# Altium schematic symbol library SBC5.SchLib: 66 symbols (part 2 of 4)
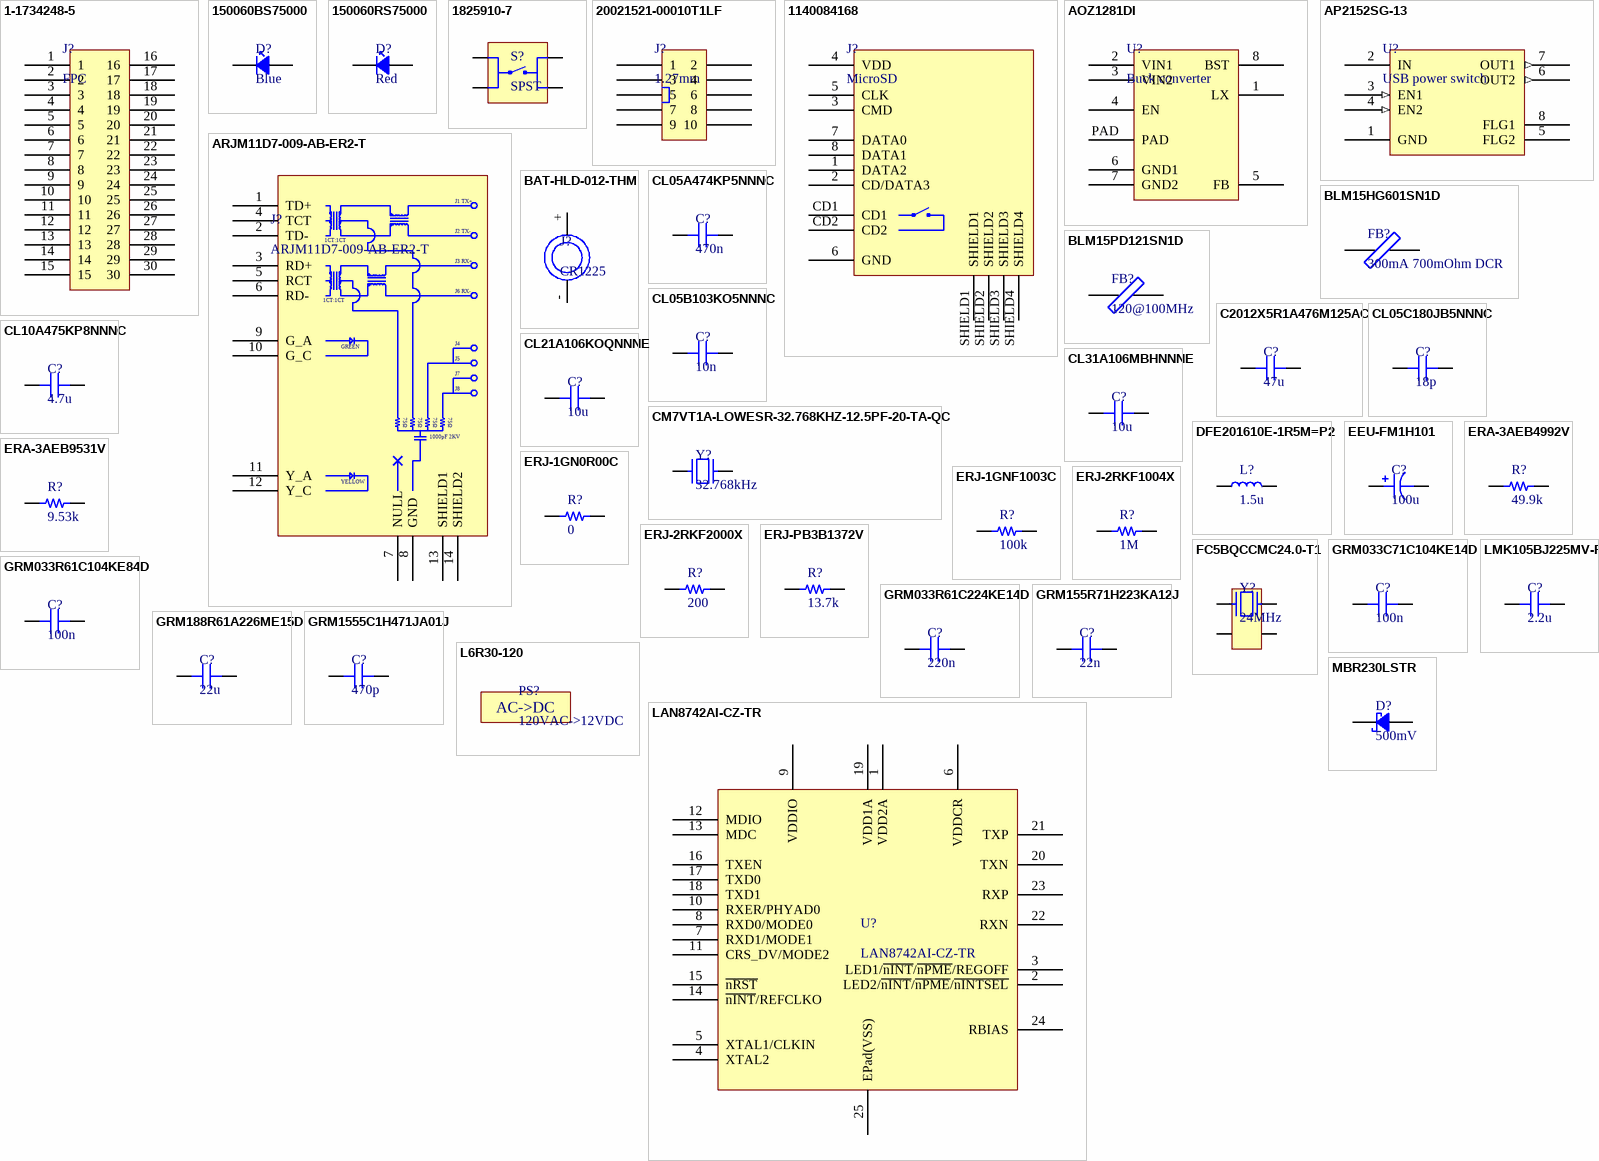
[diagram p4: symbols 1-1734248-5 to MBR230LSTR]

## ERJ-1GNF1003C
designator R?, comment 100k
PANASONIC - ERJ1GNF1003C - RES, 100K, 1%, 0.05W, 0201, THICK FILM; Manufacturer Part Number: ERJ-1GNF1003C; Resistance: 100kR; Temperature Coefficient: 200ppm/°C; Power Rating: 50mW; Voltage Rating: 25V; Supplier 1: Digi-Key; Supplier Part Number 1: P122655CT-ND; Manufacturer: Panasonic; RoHS: Yes; Category: Chip SMD Resistors; Stock 1: 833904; Pricing 1: 1=0.10000, 10=0.04600, 100=0.01890, 1000=0.00848, 2500=0.00736, 5000=0.00608 (USD); Mount: Surface Mount; Case/Package: 0201; Number of Pins: 2; Contact Plating: Tin,Matte; Case Code (Metric): 0603; Case Code (Imperial): 0201; Weight: 6E-06oz; Size Code: 0201; Min Operating Temperature: -55°C; Max Operating Temperature: 125°C; Tolerance: 1%; Resistor Type: Thick Film; Packaging: Tape and Reel; Package Quantity: 15000; Number of Terminations: 2; Max Power Dissipation: 50mW; Termination: SMD/SMT; Voltage Rating (DC): 25V; Series: ERJ; Resistance Tolerance: 1%; Length: 0.024inch; Width: 0.012inch; Height: 0.01inch; Radiation Hardening: No; REACH SVHC: No SVHC; Lead Free: Lead Free; RoHS Compliant: Yes; ComponentLink1URL: https://datasheet.ciiva.com/7830/1678782-7830709.pdf?src-supplier=Element14; ComponentLink1Description: https://datasheet.ciiva.com/7830/1678782-7830709.pdf?src-supplier=Element14; ComponentLink2URL: https://datasheet.ciiva.com/16508/aoa0000ce2-16508328.pdf?src-supplier=Future+Electronics; ComponentLink2Description: https://datasheet.ciiva.com/16508/aoa0000ce2-16508328.pdf?src-supplier=Future+Electronics; ComponentLink3URL: https://datasheet.ciiva.com/24161/aoa0000ce2-24161032.pdf?src-supplier=Mouser; ComponentLink3Description: https://datasheet.ciiva.com/24161/aoa0000ce2-24161032.pdf?src-supplier=Mouser; ComponentLink4URL: https://datasheet.ciiva.com/43467/1678782-43467102.pdf?src-supplier=Farnell; ComponentLink4Description: https://datasheet.ciiva.com/43467/1678782-43467102.pdf?src-supplier=Farnell
footprint R0201 (Chip Resistor, 2-Leads, Body 0.60x0.30mm, IPC Medium Density)
pins: 1, 2

## ERJ-2RKF1004X
designator R?, comment 1M
RES SMD 1M OHM 1% 1/10W 0402; Manufacturer: Panasonic; Manufacturer Part Number: ERJ-2RKF1004X; Resistance: 1MR; Temperature Coefficient: 100ppm/°C; Power Rating: 100mW; Voltage Rating: 50V; Supplier 1: Digi-Key; Supplier Part Number 1: P1.00MLCT-ND; RoHS: Yes; Category: Chip SMD Resistors; Stock 1: 183702; Pricing 1: 1=0.10000, 10=0.02200, 100=0.00890, 1000=0.00398, 2500=0.00345, 5000=0.00285 (USD); Mount: Surface Mount; Case/Package: 0402; Number of Pins: 2; Contact Plating: Tin; Case Code (Metric): 1005; Case Code (Imperial): 0402; Weight: 2.8E-05oz; Min Operating Temperature: -55°C; Max Operating Temperature: 155°C; Tolerance: 1%; Resistor Type: Thick Film; Packaging: Tape and Reel; Package Quantity: 1; Number of Terminations: 2; Termination: SMD/SMT; Max Power Dissipation: 100mW; Voltage Rating (DC): 50V; Features: Automotive AEC-Q200; Working Voltage: 50V; Series: ERJ; Construction: Rectangular; Technology: THICK FILM; Resistance Tolerance: 1%; Length: 1mm; Width: 0.02inch; Height: 0.35mm; Depth: 0.5mm; Radiation Hardening: No; Lead Free: Lead Free; REACH SVHC: Yes; Military Standard: Not; RoHS Compliant: Yes; ComponentLink1URL: https://datasheet.ciiva.com/11821/0900766b80f80784-11821229.pdf?src-supplier=RSComponents; ComponentLink1Description: https://datasheet.ciiva.com/11821/0900766b80f80784-11821229.pdf?src-supplier=RSComponents; ComponentLink2URL: https://datasheet.ciiva.com/34303/1987046-34303551.pdf?src-supplier=Jameco; ComponentLink2Description: https://datasheet.ciiva.com/34303/1987046-34303551.pdf?src-supplier=Jameco; ComponentLink3URL: https://datasheet.ciiva.com/16766/70260748-16766711.pdf?src-supplier=Allied+Electronics; ComponentLink3Description: https://datasheet.ciiva.com/16766/70260748-16766711.pdf?src-supplier=Allied+Electronics; ComponentLink4URL: https://datasheet.ciiva.com/16199/aoa0000ce2-16199544.pdf?src-supplier=Future+Electronics; ComponentLink4Description: https://datasheet.ciiva.com/16199/aoa0000ce2-16199544.pdf?src-supplier=Future+Electronics; ComponentLink5URL: https://datasheet.ciiva.com/16779/70260748-16779288.pdf?src-supplier=Allied+Electronics; ComponentLink5Description: https://datasheet.ciiva.com/16779/70260748-16779288.pdf?src-supplier=Allied+Electronics; ComponentLink6URL: https://datasheet.ciiva.com/17215/aoa0000ce2-17215243.pdf?src-supplier=Avnet+Europe; ComponentLink6Description: https://datasheet.ciiva.com/17215/aoa0000ce2-17215243.pdf?src-supplier=Avnet+Europe; ComponentLink7URL: https://datasheet.ciiva.com/7909/aoa0000ce2-7909180.pdf?src-supplier=Element14; ComponentLink7Description: https://datasheet.ciiva.com/7909/aoa0000ce2-7909180.pdf?src-supplier=Element14; ComponentLink8URL: https://datasheet.ciiva.com/22723/1678782-22723164.pdf?src-supplier=Element14; ComponentLink8Description: https://datasheet.ciiva.com/22723/1678782-22723164.pdf?src-supplier=Element14; ComponentLink9URL: https://datasheet.ciiva.com/24158/aoa0000ce2-24158990.pdf?src-supplier=Mouser; ComponentLink9Description: https://datasheet.ciiva.com/24158/aoa0000ce2-24158990.pdf?src-supplier=Mouser
footprint R0402
pins: 1, 2

## ERJ-2RKF2000X
designator R?, comment 200
Res Thick Film 0402 200 Ohm 1% 1/10W ±100ppm/°C Molded SMD Punched Carrier T/R; Manufacturer: Panasonic; Manufacturer Part Number: ERJ-2RKF2000X; Resistance: 200R; Power Rating: 100mW; Voltage Rating: 50V; Supplier 1: Digi-Key; Supplier Part Number 1: P200LCT-ND; RoHS: Yes; Category: Chip SMD Resistors; Stock 1: 1029432; Pricing 1: 1=0.10000, 10=0.02200, 100=0.00890, 1000=0.00398, 2500=0.00345, 5000=0.00285 (USD); Mount: Surface Mount; Case/Package: 0402; Case Code (Metric): 1005; Case Code (Imperial): 0402; Contact Plating: Tin; Size Code: 0402; Min Operating Temperature: -55°C; Max Operating Temperature: 155°C; Tolerance: 1%; Packaging: Tape and Reel; Package Quantity: 1; Resistor Type: Thick Film; Number of Terminations: 2; Termination: SMD/SMT; Temperature Coefficient: 100ppm/°C; Max Power Dissipation: 100mW; Voltage Rating (DC): 50V; Features: Automotive AEC-Q200; Series: ERJ; Technology: THICK FILM; Resistance Tolerance: 1%; Construction: Rectangular; Length: 1mm; Width: 0.02inch; Height: 0.35mm; Depth: 0.5mm; Radiation Hardening: No; REACH SVHC: No SVHC; Military Standard: Not; Lead Free: Lead Free; RoHS Compliant: Yes; ComponentLink1URL: https://datasheet.ciiva.com/11821/0900766b80f80784-11821222.pdf?src-supplier=RSComponents; ComponentLink1Description: https://datasheet.ciiva.com/11821/0900766b80f80784-11821222.pdf?src-supplier=RSComponents; ComponentLink2URL: https://datasheet.ciiva.com/16449/aoa0000ce2-16449365.pdf?src-supplier=Future+Electronics; ComponentLink2Description: https://datasheet.ciiva.com/16449/aoa0000ce2-16449365.pdf?src-supplier=Future+Electronics; ComponentLink3URL: https://datasheet.ciiva.com/48531/aoa0000ce2-48531061.pdf?src-supplier=Avnet; ComponentLink3Description: https://datasheet.ciiva.com/48531/aoa0000ce2-48531061.pdf?src-supplier=Avnet; ComponentLink4URL: https://datasheet.ciiva.com/22748/426256-22748294.pdf?src-supplier=Element14; ComponentLink4Description: https://datasheet.ciiva.com/22748/426256-22748294.pdf?src-supplier=Element14; ComponentLink5URL: https://datasheet.ciiva.com/28691/1678782-28691926.pdf?src-supplier=Element14; ComponentLink5Description: https://datasheet.ciiva.com/28691/1678782-28691926.pdf?src-supplier=Element14; ComponentLink6URL: https://datasheet.ciiva.com/6137/426256-6137544.pdf?src-supplier=Farnell; ComponentLink6Description: https://datasheet.ciiva.com/6137/426256-6137544.pdf?src-supplier=Farnell; ComponentLink7URL: https://datasheet.ciiva.com/22748/426256-22748296.pdf?src-supplier=Element14; ComponentLink7Description: https://datasheet.ciiva.com/22748/426256-22748296.pdf?src-supplier=Element14; ComponentLink8URL: https://datasheet.ciiva.com/43460/426256-43460283.pdf?src-supplier=Farnell; ComponentLink8Description: https://datasheet.ciiva.com/43460/426256-43460283.pdf?src-supplier=Farnell; ComponentLink9URL: https://datasheet.ciiva.com/24024/aoa0000ce2-24024252.pdf?src-supplier=Mouser; ComponentLink9Description: https://datasheet.ciiva.com/24024/aoa0000ce2-24024252.pdf?src-supplier=Mouser; ComponentLink10URL: https://datasheet.ciiva.com/9184/aoa0000ce2-9184574.pdf?src-supplier=Avnet; ComponentLink10Description: https://datasheet.ciiva.com/9184/aoa0000ce2-9184574.pdf?src-supplier=Avnet; ComponentLink11URL: https://datasheet.ciiva.com/16758/70260748-16758862.pdf?src-supplier=Allied+Electronics; ComponentLink11Description: https://datasheet.ciiva.com/16758/70260748-16758862.pdf?src-supplier=Allied+Electronics; ComponentLink12URL: https://datasheet.ciiva.com/22749/1678782-22749583.pdf?src-supplier=Element14; ComponentLink12Description: https://datasheet.ciiva.com/22749/1678782-22749583.pdf?src-supplier=Element14; ComponentLink13URL: https://datasheet.ciiva.com/30174/aoa0000ce2-30174431.pdf?src-supplier=Onlinecomponents.com; ComponentLink13Description: https://datasheet.ciiva.com/30174/aoa0000ce2-30174431.pdf?src-supplier=Onlinecomponents.com
footprint R0402
pins: 1, 2

## ERJ-PB3B1372V
designator R?, comment 13.7k
RES SMD 13.7K OHM 0.1% 1/5W 0603; Manufacturer: Panasonic; Manufacturer Part Number: ERJ-PB3B1372V; Max Power Dissipation: 200mW; Temperature Coefficient: 50ppm/°C; Resistance: 13.7kR; Supplier 1: Digi-Key; RoHS: Yes; Category: Chip SMD Resistors; Stock 1: 5380; Pricing 1: 1=0.23000, 10=0.19100, 25=0.13920, 50=0.10100, 100=0.07480, 250=0.05744, 500=0.04524, 1000=0.03132 (USD); Case/Package: 0603; Case Code (Imperial): 0603; Case Code (Metric): 1608; Min Operating Temperature: -55°C; Max Operating Temperature: 155°C; Features: Automotive AEC-Q200; Tolerance: 0.1%; Packaging: Tape and Reel; Resistor Type: Thick Film; Number of Terminations: 2; Length: 0.063inch; Width: 0.032inch; Height - Seated (Max): 0.022inch; ComponentLink1URL: https://industrial.panasonic.com/cdbs/www-data/pdf/RDM0000/DMM0000COL5.pdf?src-supplier=Digi-Key; ComponentLink1Description: https://industrial.panasonic.com/cdbs/www-data/pdf/RDM0000/DMM0000COL5.pdf?src-supplier=Digi-Key; ComponentLink2URL: https://industrial.panasonic.com/sa/system/files/data/download/catalog/id_fixed-resistors_e_2.pdf?src-supplier=Digi-Key; ComponentLink2Description: https://industrial.panasonic.com/sa/system/files/data/download/catalog/id_fixed-resistors_e_2.pdf?src-supplier=Digi-Key; Supplier Part Number 1: P20100CT-ND
footprint R0603
pins: 1, 2

## FC5BQCCMC24.0-T1
designator Y?, comment 24MHz
Crystal 24MHz ±30ppm (Tol) ±30ppm (Stability) 20pF FUND 50Ohm 4-Pin SMD T/R; Manufacturer: Fox Electronics; Manufacturer Part Number: FC5BQCCMC24.0-T1; ESR (Equivalent Series Resistance): 50R; Supplier 1: Digi-Key; Supplier Part Number 1: 631-1026-1-ND; RoHS: Yes; Stock 1: 5766; Pricing 1: 1=0.77000, 10=0.64300, 50=0.57880, 100=0.51450, 500=0.48878 (USD); Mount: Surface Mount; Case/Package: SMD/SMT; Min Operating Temperature: 0°C; Max Operating Temperature: 70°C; Packaging: Tape and Reel; Frequency: 24MHz; Frequency Stability: 30ppm; Frequency Tolerance: 30ppm; Load Capacitance: 20pF; ComponentLink1URL: http://www.foxonline.com/pdfs/C5BQ.pdf?src-supplier=Digi-Key; ComponentLink1Description: http://www.foxonline.com/pdfs/C5BQ.pdf?src-supplier=Digi-Key
footprint FQ5032B
pins: 1, 2, 3, 4

## GRM033C71C104KE14D
designator C?, comment 100n
MURATA - GRM033C71C104KE14D - CAP, 0.1UF, 16V, MLCC, 0201; Tolerance: 10%; Dielectric: X7S; Capacitance: 100nF; Supplier 1: Digi-Key; Manufacturer: Murata; Manufacturer Part Number: GRM033C71C104KE14D; RoHS: Yes; Category: Ceramic Capacitors; Stock 1: 2625768; Pricing 1: 1=0.10000, 10=0.04400, 50=0.02380, 100=0.01940, 500=0.01386, 1000=0.01089, 2500=0.00990, 5000=0.00911 (USD); Mount: Surface Mount; Case/Package: 0201; Case Code (Imperial): 0201; Case Code (Metric): 0603; Weight: 1.2E-05oz; Min Operating Temperature: -55°C; Max Operating Temperature: 125°C; Packaging: Tape and Reel; Voltage Rating: 16V; Termination: SMD/SMT; Voltage Rating (DC): 16V; Package Quantity: 15000; Length: 0.024inch; Width: 0.3mm; Height: 0.3mm; Thickness: 0.013inch; ComponentLink1URL: http://www.mouser.com/ds/2/281/c02e-2905.pdf?src-supplier=Mouser; ComponentLink1Description: http://www.mouser.com/ds/2/281/c02e-2905.pdf?src-supplier=Mouser; ComponentLink2URL: http://www.farnell.com/datasheets/2867828.pdf?src-supplier=Farnell; ComponentLink2Description: http://www.farnell.com/datasheets/2867828.pdf?src-supplier=Farnell; ComponentLink3URL: https://search.murata.co.jp/Ceramy/image/img/A01X/G101/ENG/GRM033C71C104KE14-01.pdf?src-supplier=Digi-Key; ComponentLink3Description: https://search.murata.co.jp/Ceramy/image/img/A01X/G101/ENG/GRM033C71C104KE14-01.pdf?src-supplier=Digi-Key; ComponentLink4URL: http://www.farnell.com/datasheets/2867828.pdf?src-supplier=Newark; ComponentLink4Description: http://www.farnell.com/datasheets/2867828.pdf?src-supplier=Newark; Supplier Part Number 1: 490-10387-1-ND
footprint C0201
pins: 1, 2

## GRM033R61C104KE84D
designator C?, comment 100n
Multilayer Ceramic Capacitors MLCC - SMD/SMT 0201 0.10uF 16volts *Derate Voltage/Temp; Manufacturer: Murata; Manufacturer Part Number: GRM033R61C104KE84D; Capacitance: 100nF; Dielectric: X5R; Voltage Rating: 16V; Tolerance: 10%; Supplier 1: Digi-Key; Supplier Part Number 1: 490-9985-2-ND; RoHS: Yes; Category: Ceramic Capacitors; Stock 1: 2025000; Pricing 1: 15000=0.00770, 30000=0.00732 (USD); Mount: Surface Mount; Case/Package: 0201; Case Code (Metric): 0603; Case Code (Imperial): 0201; Weight: 1.2E-05oz; Min Operating Temperature: -55°C; Max Operating Temperature: 85°C; Packaging: Tape and Reel; Termination: SMD/SMT; Voltage Rating (DC): 16V; Package Quantity: 15000; Length: 0.6mm; Width: 0.012inch; Height: 0.3mm; Thickness: 0.013inch; REACH SVHC: No SVHC; Lead Free: Lead Free; RoHS Compliant: Yes; ComponentLink1URL: http://www.farnell.com/datasheets/2867836.pdf?src-supplier=Farnell; ComponentLink1Description: http://www.farnell.com/datasheets/2867836.pdf?src-supplier=Farnell; ComponentLink2URL: http://components.arrow.com/part/dataview/0323_07280039?src-supplier=Arrow+Europe; ComponentLink2Description: http://components.arrow.com/part/dataview/0323_07280039?src-supplier=Arrow+Europe; ComponentLink3URL: http://www.mouser.com/ds/2/281/c02e-2905.pdf?src-supplier=Mouser; ComponentLink3Description: http://www.mouser.com/ds/2/281/c02e-2905.pdf?src-supplier=Mouser; ComponentLink4URL: http://search.murata.co.jp/Ceramy/image/img/A01X/G101/ENG/GRM033R61C104KE84-01.pdf?src-supplier=Digi-Key; ComponentLink4Description: http://search.murata.co.jp/Ceramy/image/img/A01X/G101/ENG/GRM033R61C104KE84-01.pdf?src-supplier=Digi-Key; ComponentLink5URL: http://psearch.en.murata.com/capacitor/product/GRM033R61C104KE84%23.pdf?src-supplier=Avnet; ComponentLink5Description: http://psearch.en.murata.com/capacitor/product/GRM033R61C104KE84%23.pdf?src-supplier=Avnet; ComponentLink6URL: http://www.farnell.com/datasheets/2867836.pdf?src-supplier=Element14; ComponentLink6Description: http://www.farnell.com/datasheets/2867836.pdf?src-supplier=Element14
footprint C0201
pins: 1, 2

## GRM033R61C224KE14D
designator C?, comment 220n
Cap Ceramic Monolithic 0.22uF 16VDC 10% SMD Paper T/R; Manufacturer: Murata; Manufacturer Part Number: GRM033R61C224KE14D; Supplier 1: Digi-Key; RoHS: No; Stock 1: 16192; Pricing 1: 1=0.10000, 10=0.03900, 50=0.02120, 100=0.01720, 500=0.01232, 1000=0.00968, 2500=0.00880, 5000=0.00810 (USD); ComponentLink1URL: https://search.murata.co.jp/Ceramy/image/img/A01X/G101/ENG/GRM033R61C224KE14-01.pdf?src-supplier=Digi-Key; ComponentLink1Description: https://search.murata.co.jp/Ceramy/image/img/A01X/G101/ENG/GRM033R61C224KE14-01.pdf?src-supplier=Digi-Key; Supplier Part Number 1: 490-17040-1-ND
footprint C0201
pins: 1, 2

## GRM155R71H223KA12J
designator C?, comment 22n
Multilayer Ceramic Capacitors MLCC - SMD/SMT 0.022uF 50Volts X7R 10%; Manufacturer: Murata; Manufacturer Part Number: GRM155R71H223KA12J; Capacitance: 22nF; Voltage Rating: 50V; Supplier 1: Digi-Key; Supplier Part Number 1: 490-6360-1-ND; RoHS: Yes; Category: Ceramic Capacitors; Stock 1: 8911; Pricing 1: 1=0.10000, 10=0.04300, 50=0.02320, 100=0.01900, 500=0.01356, 1000=0.01065, 2500=0.00968, 5000=0.00891 (USD); Mount: Surface Mount; Case/Package: 0402; Case Code (Imperial): 0402; Case Code (Metric): 1005; Min Operating Temperature: -55°C; Max Operating Temperature: 125°C; Voltage Rating (DC): 50V; Tolerance: 10%; Packaging: Tape and Reel; Package Quantity: 50000; Dielectric: X7R; Termination: SMD/SMT; Voltage: 50V; Length: 1mm; Width: 0.5mm; Height: 0.5mm; Thickness: 0.022inch; Depth: 0.5mm; Radiation Hardening: No; Lead Free: Lead Free; ComponentLink1URL: https://datasheet.ciiva.com/5421/product-5421874.pdf?src-supplier=Mouser; ComponentLink1Description: https://datasheet.ciiva.com/5421/product-5421874.pdf?src-supplier=Mouser; ComponentLink2URL: https://datasheet.ciiva.com/6271/partnumbering-e-01-6271031.pdf?src-supplier=Digi-Key; ComponentLink2Description: https://datasheet.ciiva.com/6271/partnumbering-e-01-6271031.pdf?src-supplier=Digi-Key; ComponentLink3URL: https://datasheet.ciiva.com/11619/product-11619562.pdf?src-supplier=Avnet; ComponentLink3Description: https://datasheet.ciiva.com/11619/product-11619562.pdf?src-supplier=Avnet; ComponentLink4URL: https://datasheet.ciiva.com/6271/partnumbering-e-01-6271033.pdf?src-supplier=Digi-Key; ComponentLink4Description: https://datasheet.ciiva.com/6271/partnumbering-e-01-6271033.pdf?src-supplier=Digi-Key; ComponentLink5URL: https://datasheet.ciiva.com/6271/partnumbering-e-01-6271036.pdf?src-supplier=Digi-Key; ComponentLink5Description: https://datasheet.ciiva.com/6271/partnumbering-e-01-6271036.pdf?src-supplier=Digi-Key
footprint C0402
pins: 1, 2

## GRM188R61A226ME15D
designator C?, comment 22u
0603 22 uF 10 V ±20% Tolerance X5R Multilayer Ceramic Chip Capacitor; Manufacturer: Murata; Manufacturer Part Number: GRM188R61A226ME15D; Capacitance: 22uF; Voltage Rating: 10V; Supplier 1: Digi-Key; RoHS: Yes; Category: Ceramic Capacitors; Stock 1: 1418007; Pricing 1: 1=0.30000, 10=0.20500, 50=0.13680, 100=0.11630, 500=0.08210, 1000=0.07184 (USD); Mount: Surface Mount; Case/Package: 0603; Case Code (Metric): 1608; Case Code (Imperial): 0603; Material: Ceramic; Weight: 0.000222oz; Min Operating Temperature: -55°C; Max Operating Temperature: 85°C; Tolerance: 20%; Packaging: Tape and Reel; Dielectric: X5R; Termination: SMD/SMT; Voltage Rating (DC): 10V; Package Quantity: 4000; Length: 1.6mm; Width: 0.8mm; Height: 0.8mm; Thickness: 0.039inch; Depth: 0.8mm; REACH SVHC: No SVHC; Lead Free: Lead Free; ComponentLink1URL: https://datasheet.ciiva.com/46444/1769893-46444975.pdf?src-supplier=Element14; ComponentLink1Description: https://datasheet.ciiva.com/46444/1769893-46444975.pdf?src-supplier=Element14; Supplier Part Number 1: 490-10476-1-ND
footprint C0603
pins: 1, 2

## GRM1555C1H471JA01J
designator C?, comment 470p
Multilayer Ceramic Capacitors MLCC - SMD/SMT 470pF 50Volts C0G 5%; Manufacturer: Murata; Manufacturer Part Number: GRM1555C1H471JA01J; Voltage Rating: 50V; RoHS: Yes; Category: Ceramic Capacitors; Stock 1: 130204; Pricing 1: 1=0.10000, 10=0.07100, 50=0.03900, 100=0.03180, 500=0.02272, 1000=0.01785, 2500=0.01622, 5000=0.01493 (USD); Mount: Surface Mount; Case/Package: 0402; Case Code (Metric): 1005; Case Code (Imperial): 0402; Min Operating Temperature: -55°C; Max Operating Temperature: 125°C; Capacitance: 470pF; Tolerance: 5%; Package Quantity: 50000; Packaging: Tape and Reel; Dielectric: C0G; Termination: SMD/SMT; Voltage: 50V; Voltage Rating (DC): 50V; Length: 1mm; Width: 0.02inch; Height: 0.5mm; Thickness: 0.022inch; Depth: 0.5mm; Radiation Hardening: No; Lead Free: Lead Free; ComponentLink1URL: https://datasheet.ciiva.com/6270/product-6270772.pdf?src-supplier=Digi-Key; ComponentLink1Description: https://datasheet.ciiva.com/6270/product-6270772.pdf?src-supplier=Digi-Key; ComponentLink2URL: https://datasheet.ciiva.com/6270/partnumbering-e-01-6270773.pdf?src-supplier=Digi-Key; ComponentLink2Description: https://datasheet.ciiva.com/6270/partnumbering-e-01-6270773.pdf?src-supplier=Digi-Key; ComponentLink3URL: https://datasheet.ciiva.com/6270/partnumbering-e-01-6270774.pdf?src-supplier=Digi-Key; ComponentLink3Description: https://datasheet.ciiva.com/6270/partnumbering-e-01-6270774.pdf?src-supplier=Digi-Key; ComponentLink4URL: https://datasheet.ciiva.com/11604/product-11604839.pdf?src-supplier=Avnet; ComponentLink4Description: https://datasheet.ciiva.com/11604/product-11604839.pdf?src-supplier=Avnet; Supplier 1: Digi-Key; Supplier Part Number 1: 490-6242-1-ND
footprint C0402
pins: 1, 2

## L6R30-120
designator PS?, comment 120VAC->12VDC
120VAC->12VDC, 2.5A; Manufacturer: Curtis Industries; Manufacturer Part Number: L6R30-120; Connector Type: Plug; Output Voltage: 12V; Max Power Dissipation: 30W; Approvals: UL; Supplier 1: Digi-Key; Supplier Part Number 1: 364-1279-ND; RoHS: No; Min Operating Temperature: 0°C; Max Operating Temperature: 40°C; Max Output Current: 2.5A; ComponentLink1URL: https://media.digikey.com/pdf/Data%20Sheets/Curtis%20Industries%20PDFs/L6R24-L6R30_Series.pdf?src-supplier=Digi-Key; ComponentLink1Description: https://media.digikey.com/pdf/Data%20Sheets/Curtis%20Industries%20PDFs/L6R24-L6R30_Series.pdf?src-supplier=Digi-Key
text: AC->DC

## LAN8742AI-CZ-TR
designator U?
MICROCHIP - LAN8742AI-CZ-TR - Ethernet Controller, 100 Mbps, IEEE 802.3, IEEE 802.3u, 1.62 V, 3.6 V, SQFN, 24 Pins; Max Supply Voltage: 3.3V; Min Supply Voltage: 1.8V; Number of Transceivers: 1; Simplex/Duplex: Full Duplex; Manufacturer: Microchip; Manufacturer Part Number: LAN8742AI-CZ-TR; RoHS: Yes; Category: Ethernet Interface ICs; Stock 1: 6788; Pricing 1: 1=1.49000, 25=1.24000, 100=1.15200 (USD); Mount: Surface Mount; Case/Package: QFN; Number of Pins: 24; Min Operating Temperature: -40°C; Max Operating Temperature: 85°C; Data Rate: 100Mbps; Packaging: Tape and Reel; Package Quantity: 5000; Radiation Hardening: No; ComponentLink1URL: https://datasheet.ciiva.com/18624/00001539a-18624796.pdf?src-supplier=Digi-Key; ComponentLink1Description: https://datasheet.ciiva.com/18624/00001539a-18624796.pdf?src-supplier=Digi-Key; ComponentLink2URL: https://datasheet.ciiva.com/29882/8742a-29882621.pdf?src-supplier=Avnet; ComponentLink2Description: https://datasheet.ciiva.com/29882/8742a-29882621.pdf?src-supplier=Avnet; Supplier 1: Digi-Key; Supplier Part Number 1: LAN8742AI-CZ-CT-ND; Supplier 2: Arrow Electronics; Supplier Part Number 2: LAN8742AI-CZ-TR; Supplier 3: Newark; Supplier Part Number 3: 41AH8416; Supplier 4: Avnet; Supplier Part Number 4: 41AH8416
footprint LAN8742AI-CZ-TR-ND (QFN, 24-Leads, Body 4.00x4.00mm, Pitch 0.50mm, Thermal Pad 2.60x2.60mm, IPC Medium Density)
ibis lan8742i (Model Description)
pins: 1 VDD2A, 2 LED2/~{nINT}/~{nPME}/~{nINTSEL}, 3 LED1/~{nINT}/~{nPME}/REGOFF, 4 XTAL2, 5 XTAL1/CLKIN, 6 VDDCR, 7 RXD1/MODE1, 8 RXD0/MODE0, 9 VDDIO, 10 RXER/PHYAD0, 11 CRS_DV/MODE2, 12 MDIO, 13 MDC, 14 ~{nINT}/REFCLKO, 15 ~{nRST}, 16 TXEN, 17 TXD0, 18 TXD1, 19 VDD1A, 20 TXN, 21 TXP, 22 RXN, 23 RXP, 24 RBIAS, 25 EPad(VSS)

## LMK105BJ225MV-F
designator C?, comment 2.2u
TAIYO YUDEN         LMK105BJ225MV-F            CERAMIC CAPACITOR, 2.2UF, 10V, X5R, 20%, 0402; Supplier 1: Digi-Key; Manufacturer: Taiyo Yuden; Manufacturer Part Number: LMK105BJ225MV-F; RoHS: Yes; Category: Ceramic Capacitors; Stock 1: 422093; Pricing 1: 1=0.10000, 10=0.05800, 50=0.03160, 100=0.02590, 500=0.01848, 1000=0.01452, 2500=0.01320, 5000=0.01214 (USD); Mount: Surface Mount; Case/Package: 0402; Case Code (Imperial): 0402; Case Code (Metric): 1005; Min Operating Temperature: -55°C; Max Operating Temperature: 85°C; Termination: SMD/SMT; Packaging: Tape and Reel; Capacitance: 2.2uF; Tolerance: 20%; Voltage Rating: 10V; Package Quantity: 1; Voltage Rating (DC): 10V; Dielectric: X5R; Resistor Type: Ceramic; Length: 1mm; Width: 0.5mm; Height: 0.5mm; Thickness: 0.022inch; Depth: 0.5mm; Radiation Hardening: No; Halogen Free: Halogen Free; REACH SVHC: Unknown; ComponentLink1URL: https://datasheet.ciiva.com/30190/500lmk105bj225mv-f-30190498.pdf?src-supplier=Onlinecomponents.com; ComponentLink1Description: https://datasheet.ciiva.com/30190/500lmk105bj225mv-f-30190498.pdf?src-supplier=Onlinecomponents.com; ComponentLink2URL: https://datasheet.ciiva.com/23631/lmk105bj225mv-f-ss-23631491.pdf?src-supplier=Newark; ComponentLink2Description: https://datasheet.ciiva.com/23631/lmk105bj225mv-f-ss-23631491.pdf?src-supplier=Newark; ComponentLink3URL: https://datasheet.ciiva.com/134/lmk105bj225mv-f-ss-134677.pdf?src-supplier=Digi-Key; ComponentLink3Description: https://datasheet.ciiva.com/134/lmk105bj225mv-f-ss-134677.pdf?src-supplier=Digi-Key; ComponentLink4URL: https://datasheet.ciiva.com/15921/286lmk105bj225mv-f-15921222.pdf?src-supplier=Onlinecomponents.com; ComponentLink4Description: https://datasheet.ciiva.com/15921/286lmk105bj225mv-f-15921222.pdf?src-supplier=Onlinecomponents.com; Supplier Part Number 1: 587-3153-1-ND
footprint C0402
pins: 1, 2

## MBR230LSTR
designator D?, comment 500mV
Diode Schottky 30V 2A SOD123; Manufacturer: SMC; Manufacturer Part Number: MBR230LSTR; Supplier 1: Digi-Key; Supplier Part Number 1: 1655-2311-1-ND; RoHS: No; Stock 1: 21905; Pricing 1: 1=0.33000, 10=0.22900, 100=0.11180, 500=0.09322, 1000=0.06477 (USD); Mount: Surface Mount; Packaging: Tape and Reel; Max Reverse Voltage (DC): 30V; Average Rectified Current: 2A; ComponentLink1URL: http://www.smc-diodes.com/propdf/MBR230LS%20N1466%20REV.A.pdf?src-supplier=Digi-Key; ComponentLink1Description: http://www.smc-diodes.com/propdf/MBR230LS%20N1466%20REV.A.pdf?src-supplier=Digi-Key
footprint SOD-123 (SODFL, 2-Leads, Body 1.60x3.70mm, IPC Medium Density)
pins: 1 "C", 2 "A"

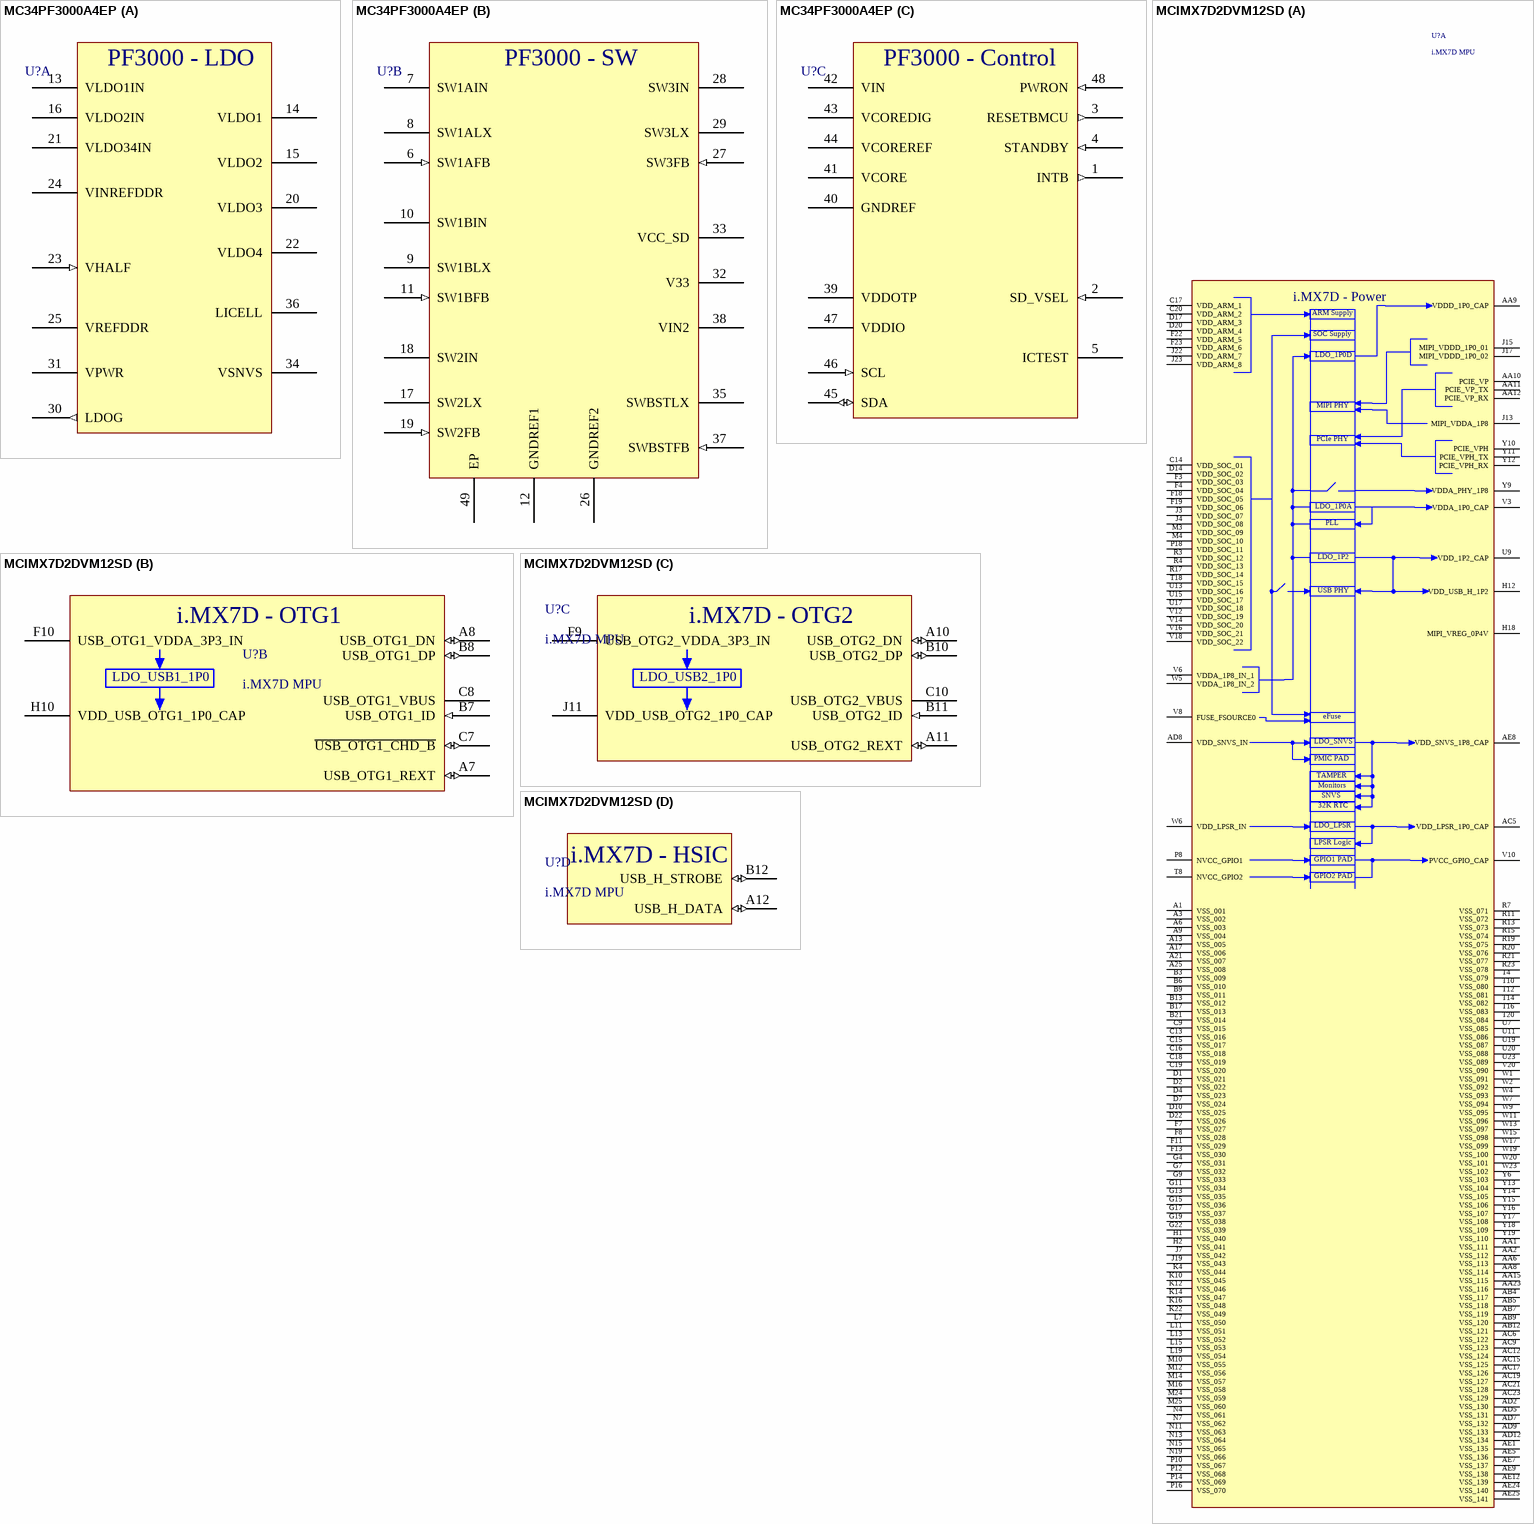
[diagram p1: symbols MC34PF3000A4EP to MCIMX7D2DVM12SD]

## MC34PF3000A4EP
designator U?, comment PMIC  (value not drawn)
Power Management IC, i.MX7, pre-prog, 4 buck, 6 LDO, 1 boost, QFN 48, Tray; Manufacturer: NXP Freescale; Manufacturer Part Number: MC34PF3000A1EP; Stock 1: 360; Pricing 1: 1=5.6, 10=5.027, 100=4.119, 500=3.50642, 1000=2.95722 (USD); Mount: Surface Mount; Case/Package: QFN; Min Operating Temperature: -40°C; Max Operating Temperature: 105°C; Packaging: Tray; ComponentLink1Description: Datasheet; ComponentLink1URL: https://www.nxp.com/docs/en/data-sheet/PF3000.pdf; Supplier 1: Digi-Key; Supplier Part Number 1: MC34PF3000A4EP-ND
footprint PQFN50P700X700X90_HS-49N (PQFN, 48-Leads, Body 7.00x7.00mm, Pitch 0.50mm, Thermal Pad 4.04x4.12mm, IPC Medium Density)
part A pins: 13 VLDO1IN (power) "Analog VLDO1 input supply. Bypass with a 1.0 µF decoupling capacitor as close to the pin as possible", 14 VLDO1 (power) "Analog VLDO1 regulator output. Bypass with a 2.2 µF ceramic output capacitor", 15 VLDO2 (power) "Analog VLDO2 regulator output. Bypass with a 4.7 µF ceramic output capacitor", 16 VLDO2IN (power) "Analog VLDO2 input supply. Bypass with a 1.0 µF decoupling capacitor as close to the pin as possible", 20 VLDO3 (power) "Analog VLDO3 regulator output. Bypass with a 2.2 µF ceramic output capacitor", 21 VLDO34IN (power) "Analog VLDO3 and VLDO4 input supply. Bypass with a 1.0 µF decoupling capacitor as close to the pin as possible", 22 VLDO4 (power) "Analog VLDO4 regulator output. Bypass with a 2.2 µF ceramic output capacitor", 23 VHALF (in) "Analog Half supply reference for VREFDDR. Bypass with 0.1 µF to ground.", 24 VINREFDDR "Analog VREFDDR regulator input. Connect a 0.1 µF capacitor between VINREFDDR and VHALF pin. Ensure there is at least 1.0 µF net capacitance from VINREFDDR to ground", 25 VREFDDR (power) "Analog VREFDDR regulator output.Bypass with 1.0 µF to ground", 30 LDOG (out) "Analog Connect to gate of front-end LDO external pass P-MOSFET. Leave floating if VPWR LDO is not used", 31 VPWR (power) "Analog Input to optional front-end VPWR LDO for systems with input voltage > 4.5 V", 34 VSNVS (power) "Analog VSNVS regulator/switch output. Bypass with 0.47 µF capacitor to ground.", 36 LICELL (power) "Analog Coin cell supply input/output. Bypass with 0.1 µF capacitor. Connect to optional coin cell."
part B pins: 6 SW1AFB (in) "Analog SW1A output voltage feedback pin. Route this trace separately from the high current path and terminate at the output capacitance or near the load, if possible for best regulation", 7 SW1AIN (power) "Analog Input to SW1A regulator. Bypass with at least a 4.7 µF ceramic capacitor and a 0.1 µF decoupling capacitor as close to the pin as possible", 8 SW1ALX (power) "Analog Switcher 1A switch node connection. Connect to SW1A inductor when used in SW1A independent mode. Connect to SW1BLX and connect to SW1AB inductor when using SW1A/B as a single regulator", 9 SW1BLX (power) "Analog Switcher 1B switch node connection. Connect to SW1B inductor when used in SW1B independent mode. Connect to SW1ALX and connect to SW1AB inductor when using SW1A/B as a single regulator", 10 SW1BIN (power) "Analog Input to SW1B regulator. Bypass with at least a 4.7 µF ceramic capacitor and a 0.1 µF decoupling capacitor as close to the pin as possible", 11 SW1BFB (in) "Analog SW1B output voltage feedback pin. Route this trace separately from the high current path and terminate at the output capacitor or near the load, if possible for best regulation", 12 GNDREF1 "GND Ground reference for SW1A/B. Connect to GND. Keep away from high current ground return paths", 17 SW2LX (power) "Analog Switcher 2 switch node connection.Connect to SW2 inductor", 18 SW2IN (power) "Analog Input to SW2 regulator. Bypass with at least a 4.7 µF ceramic capacitor and a 0.1 µF decoupling capacitor as close to the pin as possible", 19 SW2FB (in) "Analog SW2 output voltage feedback pin. Route this trace separately from the high current path and terminate at the output capacitor or near the load, if possible for best regulation", 26 GNDREF2 "GND Reference ground for SW2 and SW3 regulators. Connect to GND. Keep away from high current ground return paths", 27 SW3FB (in) "Analog SW3 output voltage feedback pin. Route this trace separately from the high current path and terminate at the output capacitor or near the load, if possible for best regulation", 28 SW3IN (power) "Analog Input to SW3 regulator. Bypass with at least a 4.7 µF ceramic capacitor and a 0.1 µF decoupling capacitor as close to the pin as possible", 29 SW3LX (power) "Analog Switcher 3 switch node connection. Connect the SW3 inductor", 32 V33 (power) "Analog V33 regulator output. Bypass with a 4.7 µF ceramic output capacitor", 33 VCC_SD (power) "Analog Output of VCC_SD regulator. Bypass with a 2.2 µF ceramic output capacitor.", 35 SWBSTLX (power) "Analog SWBST switch node connection. Connect to SWBST inductor and anode of Schottky diode", 37 SWBSTFB (in) "Analog SWBST output voltage feedback pin. Route this trace separately from the high current path and terminate at the output capacitor", 38 VIN2 (power) "Analog Input to VCC_SD, V33 regulators and SWBST control circuitry. Connect to VIN rail and bypass with 10 µF capacitor", 49 EP "GND Expose pad. Functions as ground return for buck and boost regulators. Tie this pad to the inner and external ground planes through vias to allow effective thermal dissipation"
part C pins: 1 INTB (out) "Digital Open drain interrupt signal to processor", 2 SD_VSEL (in) "Digital Input from i.MX processor to select VCC_SD regulator voltage SD_VSEL=0, VCC_SD = 2.85 V to 3.3 V SD_VSEL= 1, VCC_SD = 1.8 V to 1.85 V", 3 RESETBMCU (out) "Digital Open drain reset output to processor", 4 STANDBY (in) "Digital Standby input signal from processor", 5 ICTEST "Digital and Analog Reserved pin. Connect to GND in application", 39 VDDOTP "Digital & Analog Supply to program OTP fuses. Connect VDDOTP to GND during normal application", 40 GNDREF "GND Ground reference for IC core circuitry. Connect to ground. Keep away from high current ground return paths", 41 VCORE "Analog Internal analog core supply. Bypass with 1 µF capacitor to ground", 42 VIN "Analog Main IC supply. Bypass with 1.0 µF capacitor to ground. Connect to system input supply if voltage ≤ 4.5 V. Connect to drain of external PFET when VPWR LDO is used for systems with input voltage > 4.5 V", 43 VCOREDIG "Analog Internal digital core supply. Bypass with 1.0 µF capacitor to ground", 44 VCOREREF "Analog Main band gap reference. Bypass with 220 nF capacitor to ground", 45 SDA (io) "Digital I2C data line (open drain). Pull up to VDDIO with a 4.7 kΩ resistor", 46 SCL (in) "Digital I2C clock. Pull up to VDDIO with a 4.7 kΩ resistor", 47 VDDIO (power) "Analog Supply for I2C bus. Bypass with 0.1 µF ceramic capacitor. Connect to 1.7 to 3.6 V supply. Ensure that VDDIO is always lesser than or equal to VIN", 48 PWRON (in) "Digital Power ON/OFF input from processor"
part A text: PF3000 - LDO
part B text: PF3000 - SW
part C text: PF3000 - Control

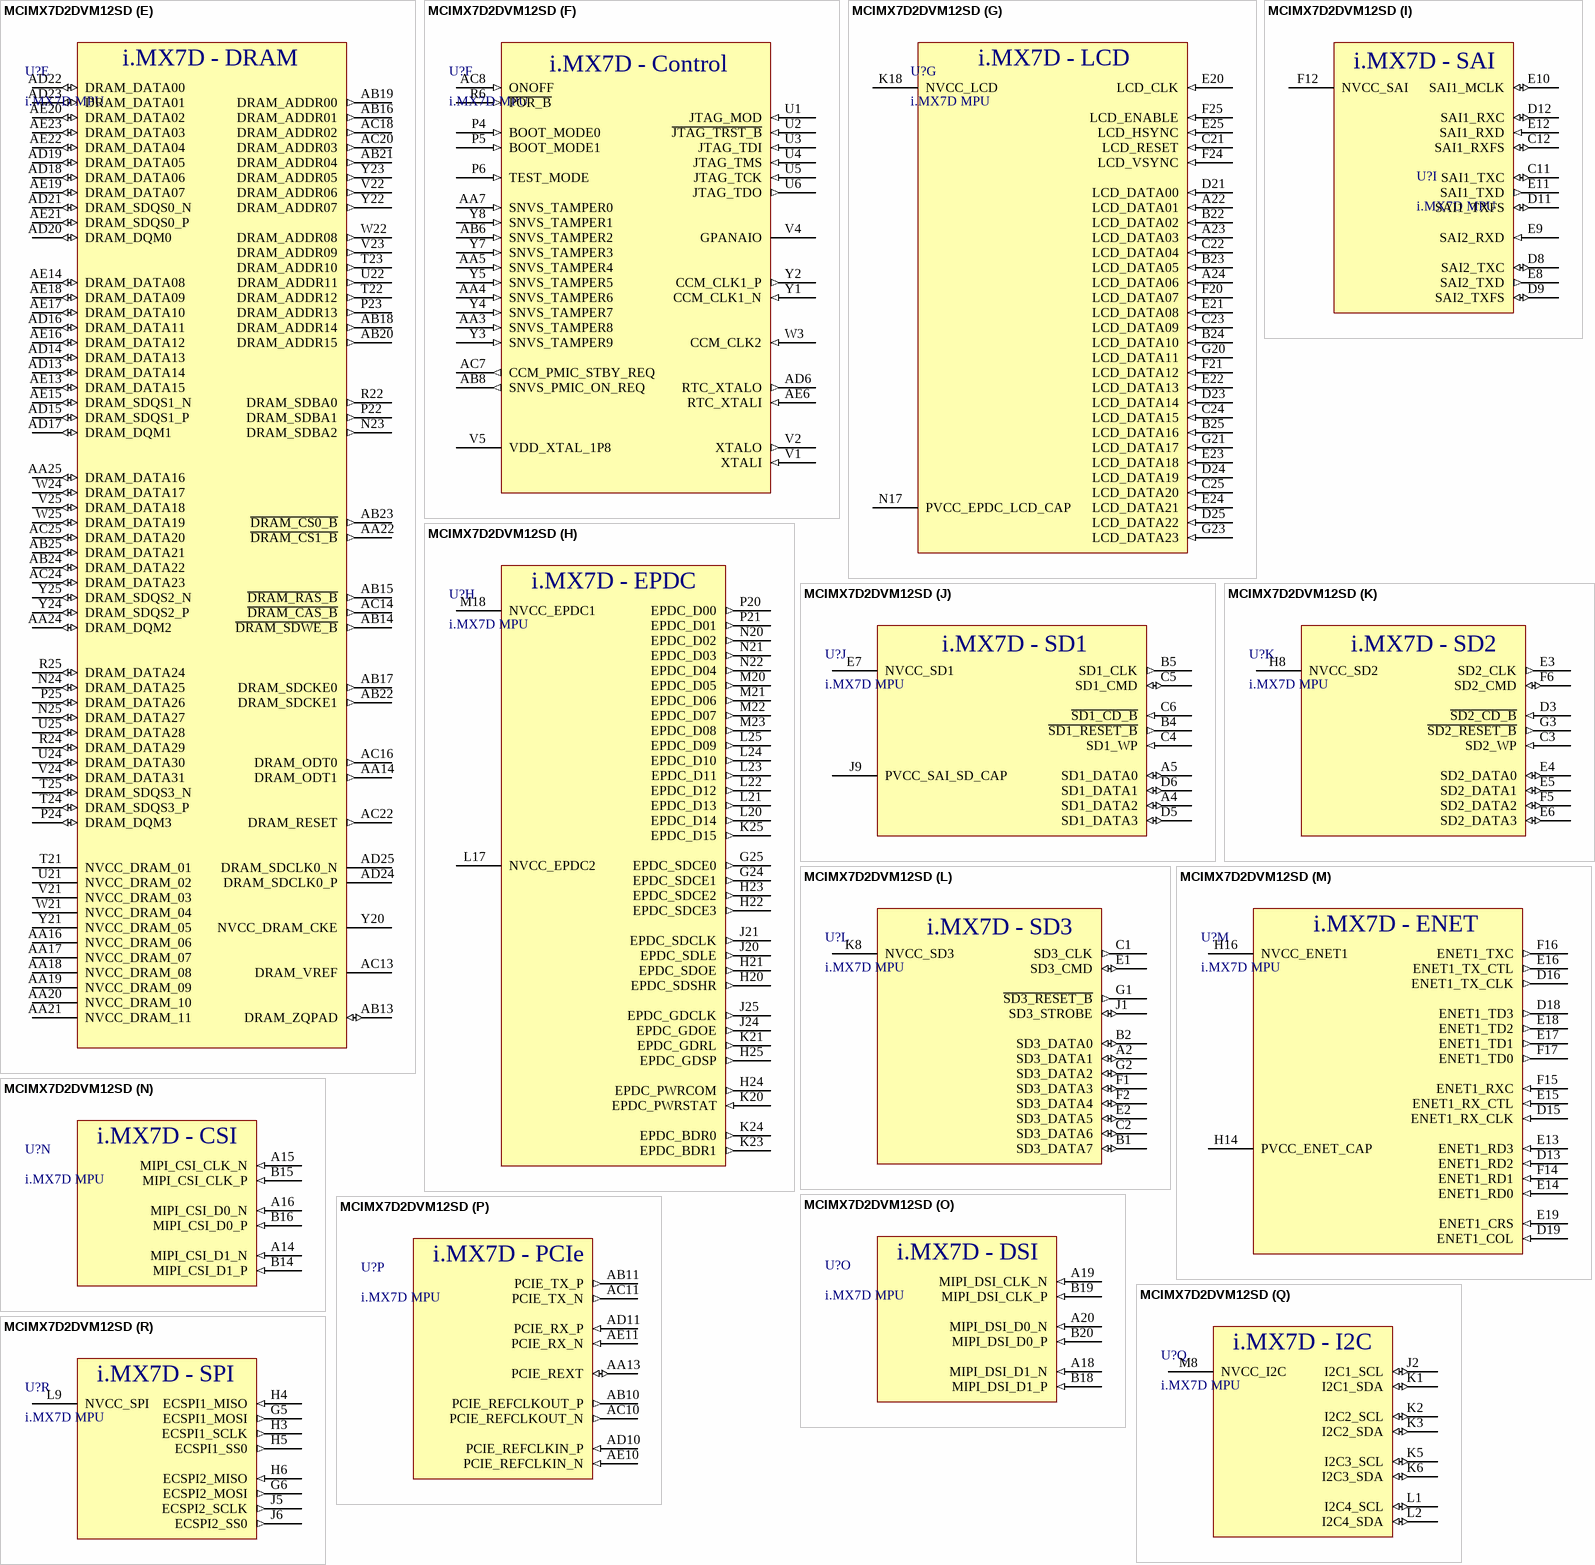
[diagram p2: symbol MCIMX7D2DVM12SD]

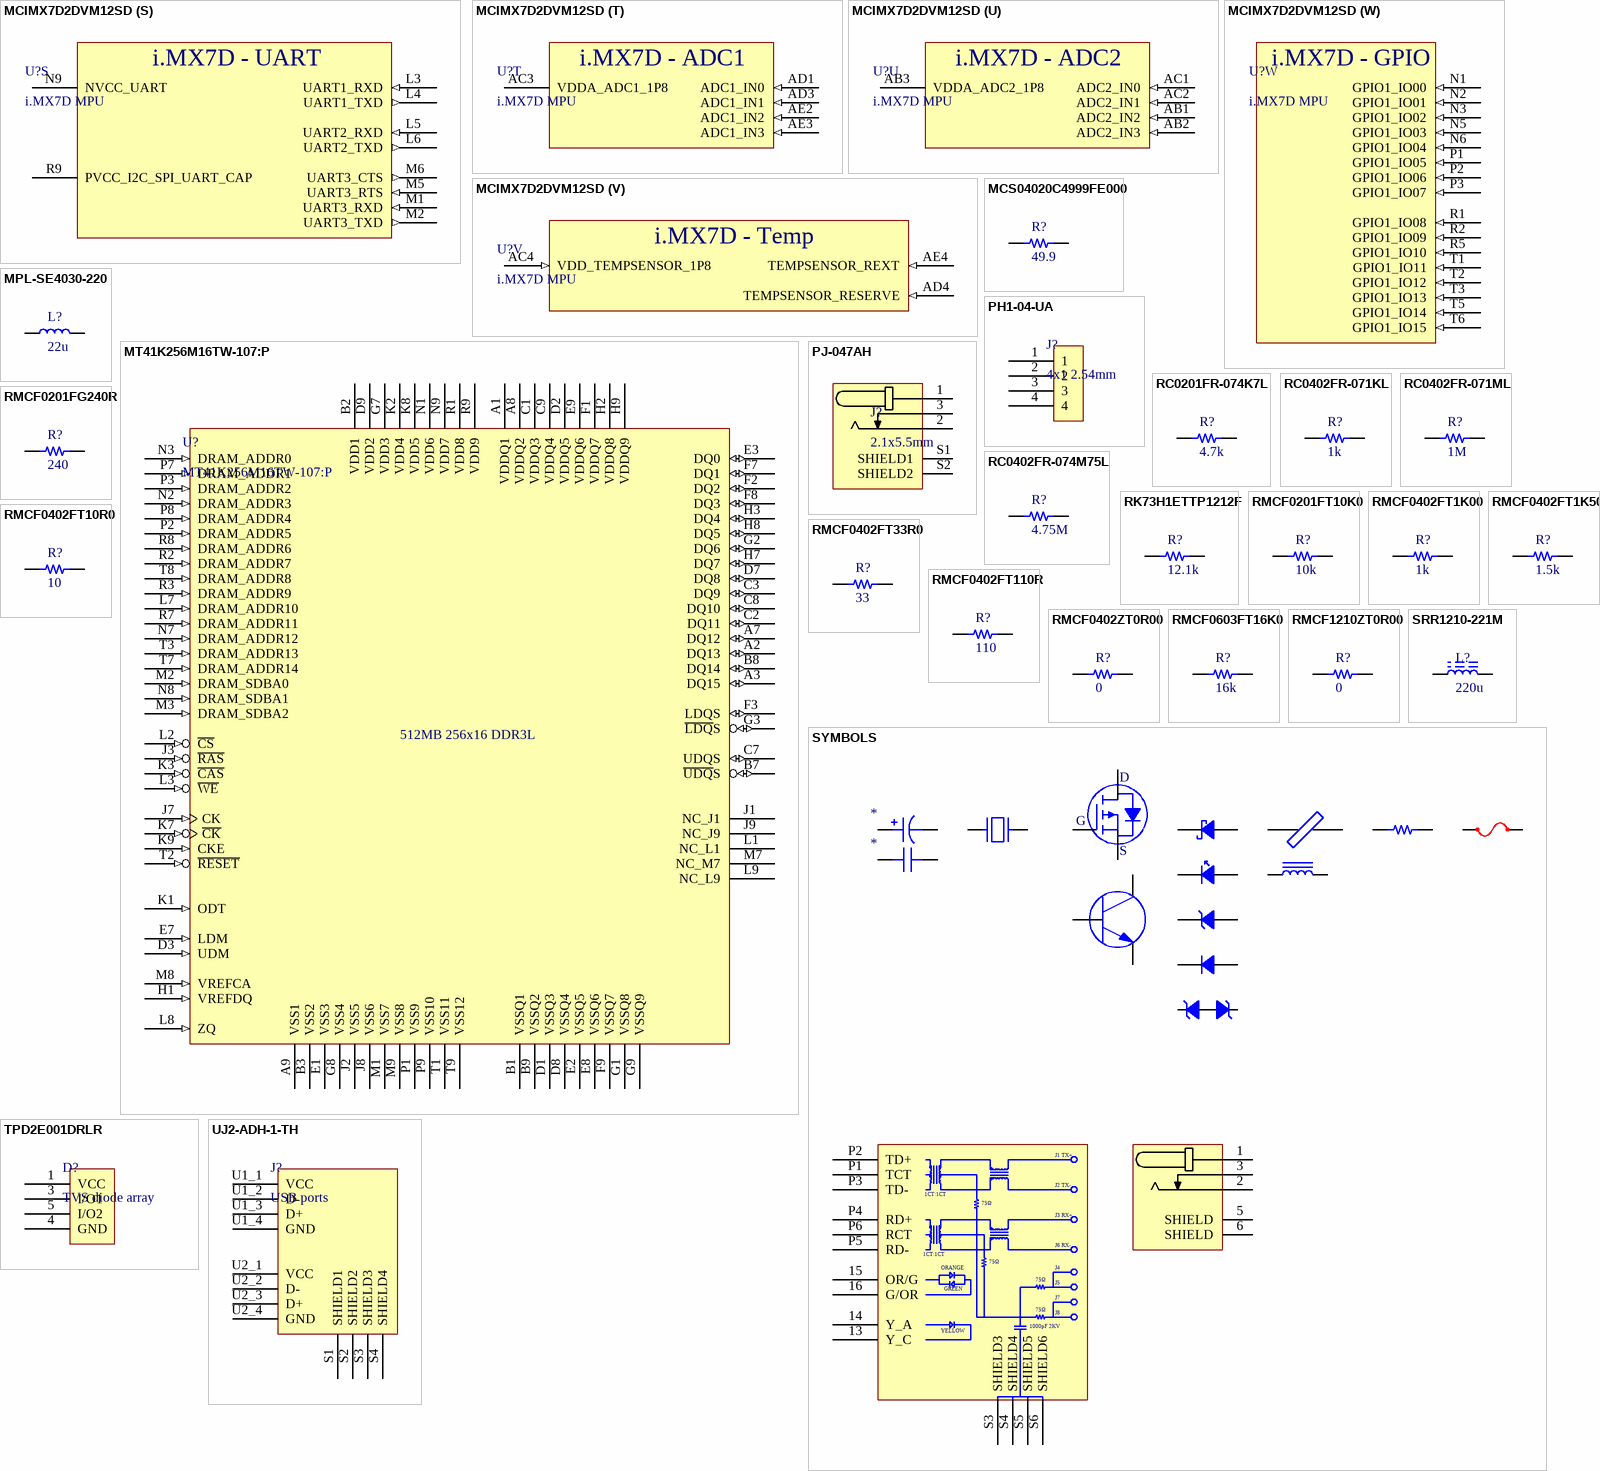
[diagram p3: symbols MCIMX7D2DVM12SD to UJ2-ADH-1-TH]